# Altium schematic symbol library DF01S.SchLib: 2 symbols
Pins are listed as number, name and electrical type; pins without a type are passive.

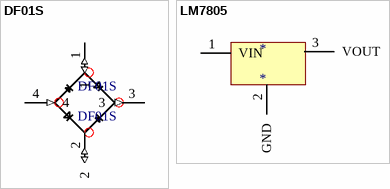
[diagram p0: symbols DF01S to LM7805]

## DF01S
designator DF01S
Likeretterbro
footprint DF01S_PCB (Likeretterbro)
pins: 1 (io) "~", 2 (io) "~", 3 (out) "+", 4 (in) "-"

## LM7805
designator *
footprint 221A-06 (TO, Thru-Hole, Vertical, Heatsink Mounted; 3 In-Line Leads; Pitch 2.54 mm)
pins: 1 VIN (power), 2 GND (power) "VIN", 3 VOUT (power) "VIN"